# EAGLE library part VMUSIC2 (library jason-test)
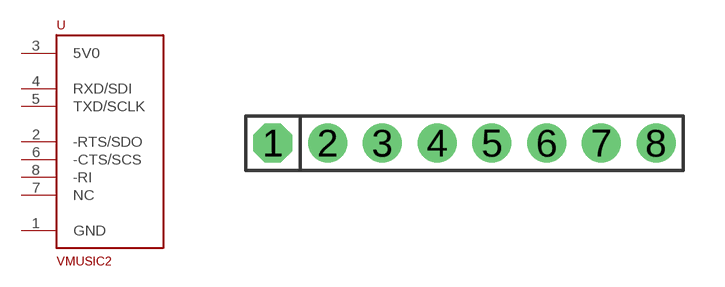
[diagram p34: symbol with the pads of 8X1-2MM; footprint 8X1-2MM]

Designator prefix -

## VMUSIC2  [8X1-2MM]
1  GND  pwr
2  -RTS/SDO
3  5V0  pwr
4  RXD/SDI
5  TXD/SCLK
6  -CTS/SCS
7  NC
8  -RI

## Footprint 8X1-2MM (pad centres in mm)
drill 0.8 pad 1.422 octagon: 1 -7,0
drill 0.8 pad 1.422 round: 2 -5,0; 3 -3,0; 4 -1,0; 5 1,0; 6 3,0; 7 5,0; 8 7,0